# EAGLE library part TP4056-PTH (library 32teeth - TP4056 Module)
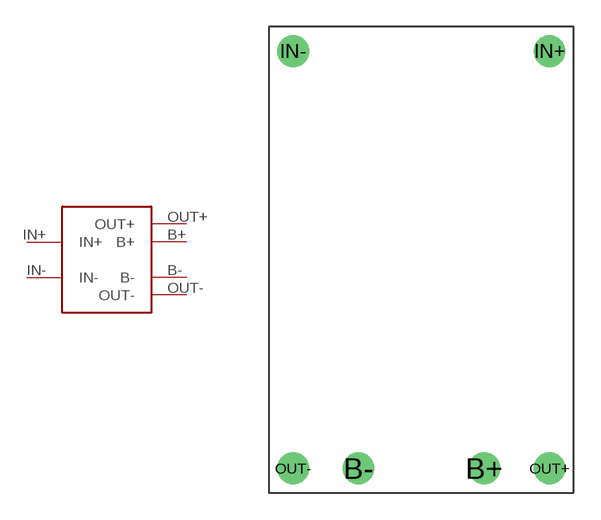
[diagram p1: symbol with the pads of TP4056-PTH; footprint TP4056-PTH]

Designator prefix -

## TP4056-PTH  [TP4056-PTH]
B+  B+
B-  B-
IN+  IN+
IN-  IN-
OUT+  OUT+
OUT-  OUT-

## Footprint TP4056-PTH (pad centres in mm)
drill 1.016 pad 1.778: B+ 12,1.35; B- 5,1.35; IN+ 15.65,24.65; IN- 1.35,24.65; OUT+ 15.65,1.35; OUT- 1.35,1.35